# Altium schematic symbol library BHI360.SchLib: 1 symbol
Pins are listed as number, name and electrical type; pins without a type are passive.

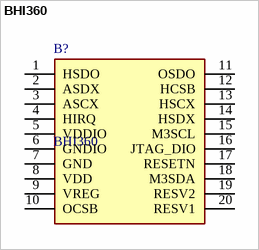
[diagram p0: symbol BHI360]

## BHI360
designator B?
IMUs - Inertial Measurement Units Programmable smart sensor combining accelerometer, gyroscope and fusion software; Manufacturer_Name: BOSCH; Geometry.Height: 1mm; Mouser Part Number: 262-BHI360; Mouser Price/Stock: https://www.mouser.co.uk/ProductDetail/Bosch-Sensortec/BHI360?qs=ulEaXIWI0c93cz3Dqv%252BGgg%3D%3D; Manufacturer_Part_Number: BHI360; Datasheet Link: https://www.bosch-sensortec.com/media/boschsensortec/downloads/datasheets/bst-bhi360-ds000.pdf
footprint BHI360
pins: 1 HSDO, 2 ASDX, 3 ASCX, 4 HIRQ, 5 VDDIO, 6 GNDIO, 7 GND, 8 VDD, 9 VREG, 10 OCSB, 11 OSDO, 12 HCSB, 13 HSCX, 14 HSDX, 15 M3SCL, 16 JTAG_DIO, 17 RESETN, 18 M3SDA, 19 RESV2, 20 RESV1